# EAGLE library part FEATHER-328P (library Adafruit_Modules)
Adafruit Feather 328P ATmega328P - 8 MHz
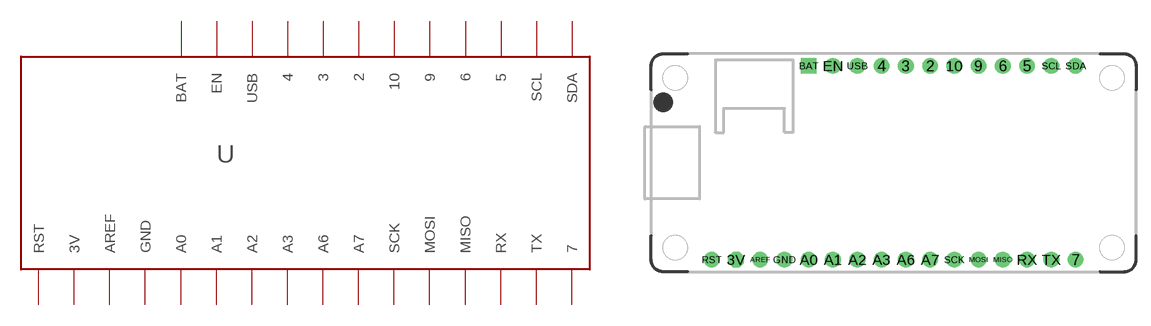
[diagram p13: symbol with the pads of FEATHER-328P; footprint FEATHER-328P]

Designator prefix -

## FEATHER-328P (ADAFRUIT: 3458)  [FEATHER-328P]
2  2
3  3
3V  3V  out
4  4
5  5
6  6
7  7
9  9
10  10
A0  A0
A1  A1
A2  A2
A3  A3
A6  A6
A7  A7
AREF  AREF  in
BAT  BAT  pwr
EN  EN  pas
GND  GND  pwr
MISO  MISO
MOSI  MOSI
RST  RST  pas
RX  RX
SCK  SCK
SCL  SCL
SDA  SDA
TX  TX
USB  USB  out

## Footprint FEATHER-328P (pad centres in mm)
Adafruit Feather - 328P
drill 1.1: 2 3.81,10.16; 3 1.27,10.16; 4 -1.27,10.16; 5 13.97,10.16; 6 11.43,10.16; 7 19.05,-10.16; 9 8.89,10.16; 10 6.35,10.16; A0 -8.89,-10.16; A1 -6.35,-10.16; A2 -3.81,-10.16; A3 -1.27,-10.16; A6 1.27,-10.16; A7 3.81,-10.16; AREF -13.97,-10.16; EN -6.35,10.16; GND -11.43,-10.16; MISO 11.43,-10.16; MOSI 8.89,-10.16; RST -19.05,-10.16; RX 13.97,-10.16; SCK 6.35,-10.16; SCL 16.51,10.16; SDA 19.05,10.16; TX 16.51,-10.16; USB -3.81,10.16
drill 1.1 octagon: 3V -16.51,-10.16
drill 1.1 square: BAT -8.89,10.16